# Altium footprint library BB-HEADER-P03-P04.PcbLib: 1 footprints
Each footprint in its own frame and in the unit in brackets; x right, y up, seen from the top. Pads: shape width x height; smd on the part's side, far side on the other; paste and mask are expansions set on the pad; w line width, h text height; cw(c..) or ccw(c..) is an arc to the next point about the centre after c.
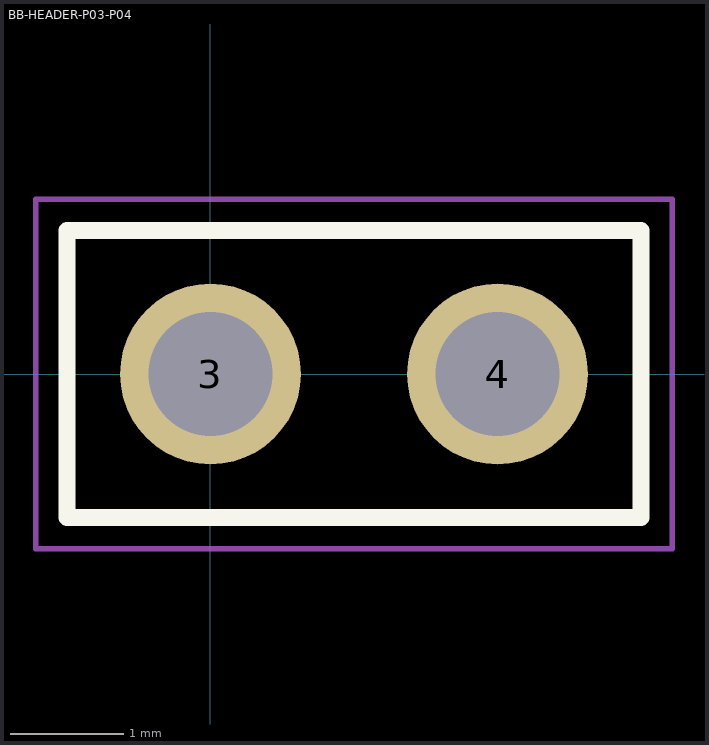
[diagram p0: the footprint, top view; thin cyan lines are the x and y axes]

## BB-HEADER-P03-P04 [mm] "BB Header, Vertical, Male, 0.1\", 2.54mm, P03-P04"
height 11.6
pads (2):
  round 1.6 hole 1.1: 3(0,0) 4(2.54,0)
Top Overlay:
  lines w0.152: -1.27,-1.27 3.81,-1.27 ; -1.27,-1.27 -1.27,1.27 ; -1.27,-1.27 -1.27,1.27 ; -1.27,-1.27 3.81,-1.27 ; -1.27,1.27 3.81,1.27 ; -1.27,1.27 3.81,1.27 ; 3.81,-1.27 3.81,1.27 ; 3.81,-1.27 3.81,1.27
Mechanical 13:
  lines w0.1: -1.27,-1.27 -1.27,1.27 3.81,1.27 3.81,-1.27 -1.27,-1.27
Mechanical 15:
  lines w0.05: -1.545,-1.545 -1.545,1.545 4.085,1.545 4.085,-1.545 -1.545,-1.545
3D body: height 8.54, standoff -3, extent -1.27,-1.27 3.81,1.27